# EAGLE library part LM3478 (library QuantumOptics)
LM3478 Switching Regulator, National Semiconductor, boost flyback or epic, ext FET. http://cache.national.com/ds/LM/LM3478.pdf http://ca.digikey.com/scripts/DkSearch/dksus.dll?Detail?Ref=87263&Row=361509&Site=CA
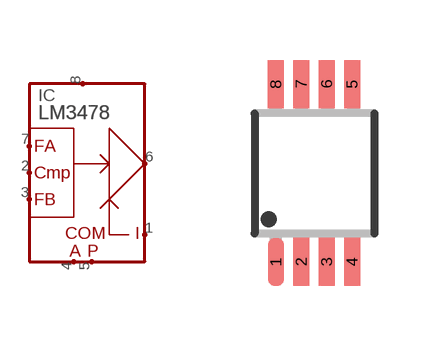
[diagram p60: symbol with the pads of MSOP8; footprint MSOP8]

Designator prefix IC

## LM3478  [MSOP8]
1  I  in
2  COMP  in
3  FB  in
4  ACOM
5  PCOM
6  DRV  out
7  FA  in
8  VIN

## Footprint MSOP8 (pad centres in mm)
MSOP-8, A.K.A. RM-8. Use 0.025" grid.
smd 0.4 x 1.2: 1 -0.635,-1.905; 2 0,-1.905; 3 0.635,-1.905; 4 1.27,-1.905; 5 1.27,2.54; 6 0.635,2.54; 7 0,2.54; 8 -0.635,2.54